# Altium schematic symbol library SCH - MCU - NUVOTON - NUVOTON NUC123SC2AE1.SchLib: 1 symbol
Pins are listed as number, name and electrical type; pins without a type are passive.

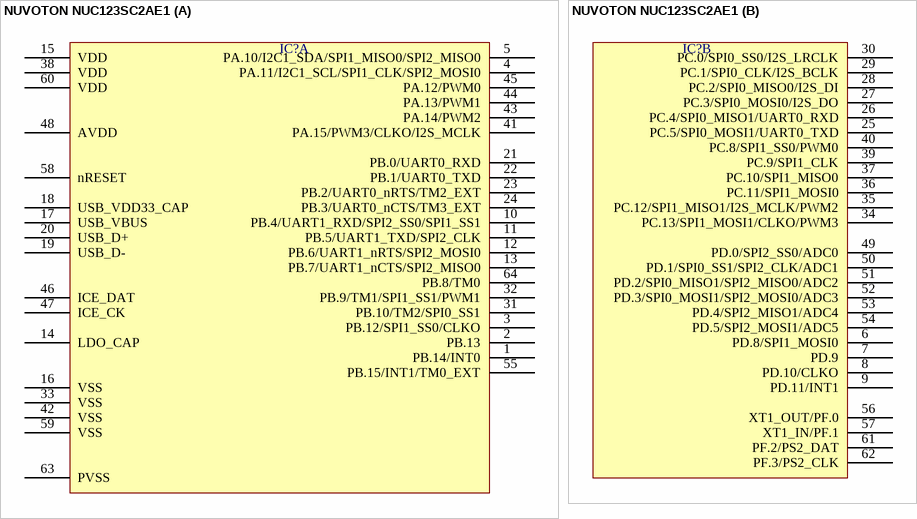
[diagram p0: symbol NUVOTON NUC123SC2AE1]

## NUVOTON NUC123SC2AE1
designator IC?  (value not drawn)
part A pins: 1 PB.14/INT0, 2 PB.13, 3 PB.12/SPI1_SS0/CLKO, 4 PA.11/I2C1_SCL/SPI1_CLK/SPI2_MOSI0, 5 PA.10/I2C1_SDA/SPI1_MISO0/SPI2_MISO0, 10 PB.4/UART1_RXD/SPI2_SS0/SPI1_SS1, 11 PB.5/UART1_TXD/SPI2_CLK, 12 PB.6/UART1_nRTS/SPI2_MOSI0, 13 PB.7/UART1_nCTS/SPI2_MISO0, 14 LDO_CAP, 15 VDD, 16 VSS, 17 USB_VBUS, 18 USB_VDD33_CAP, 19 USB_D-, 20 USB_D+, 21 PB.0/UART0_RXD, 22 PB.1/UART0_TXD, 23 PB.2/UART0_nRTS/TM2_EXT, 24 PB.3/UART0_nCTS/TM3_EXT, 31 PB.10/TM2/SPI0_SS1, 32 PB.9/TM1/SPI1_SS1/PWM1, 33 VSS, 38 VDD, 41 PA.15/PWM3/CLKO/I2S_MCLK, 42 VSS, 43 PA.14/PWM2, 44 PA.13/PWM1, 45 PA.12/PWM0, 46 ICE_DAT, 47 ICE_CK, 48 AVDD, 55 PB.15/INT1/TM0_EXT, 58 nRESET, 59 VSS, 60 VDD, 63 PVSS, 64 PB.8/TM0
part B pins: 6 PD.8/SPI1_MOSI0, 7 PD.9, 8 PD.10/CLKO, 9 PD.11/INT1, 25 PC.5/SPI0_MOSI1/UART0_TXD, 26 PC.4/SPI0_MISO1/UART0_RXD, 27 PC.3/SPI0_MOSI0/I2S_DO, 28 PC.2/SPI0_MISO0/I2S_DI, 29 PC.1/SPI0_CLK/I2S_BCLK, 30 PC.0/SPI0_SS0/I2S_LRCLK, 34 PC.13/SPI1_MOSI1/CLKO/PWM3, 35 PC.12/SPI1_MISO1/I2S_MCLK/PWM2, 36 PC.11/SPI1_MOSI0, 37 PC.10/SPI1_MISO0, 39 PC.9/SPI1_CLK, 40 PC.8/SPI1_SS0/PWM0, 49 PD.0/SPI2_SS0/ADC0, 50 PD.1/SPI0_SS1/SPI2_CLK/ADC1, 51 PD.2/SPI0_MISO1/SPI2_MISO0/ADC2, 52 PD.3/SPI0_MOSI1/SPI2_MOSI0/ADC3, 53 PD.4/SPI2_MISO1/ADC4, 54 PD.5/SPI2_MOSI1/ADC5, 56 XT1_OUT/PF.0, 57 XT1_IN/PF.1, 61 PF.2/PS2_DAT, 62 PF.3/PS2_CLK